# Altium schematic symbol library Semiconductor.SchLib: 40 symbols (part 1 of 2)
Pins are listed as number, name and electrical type; pins without a type are passive.

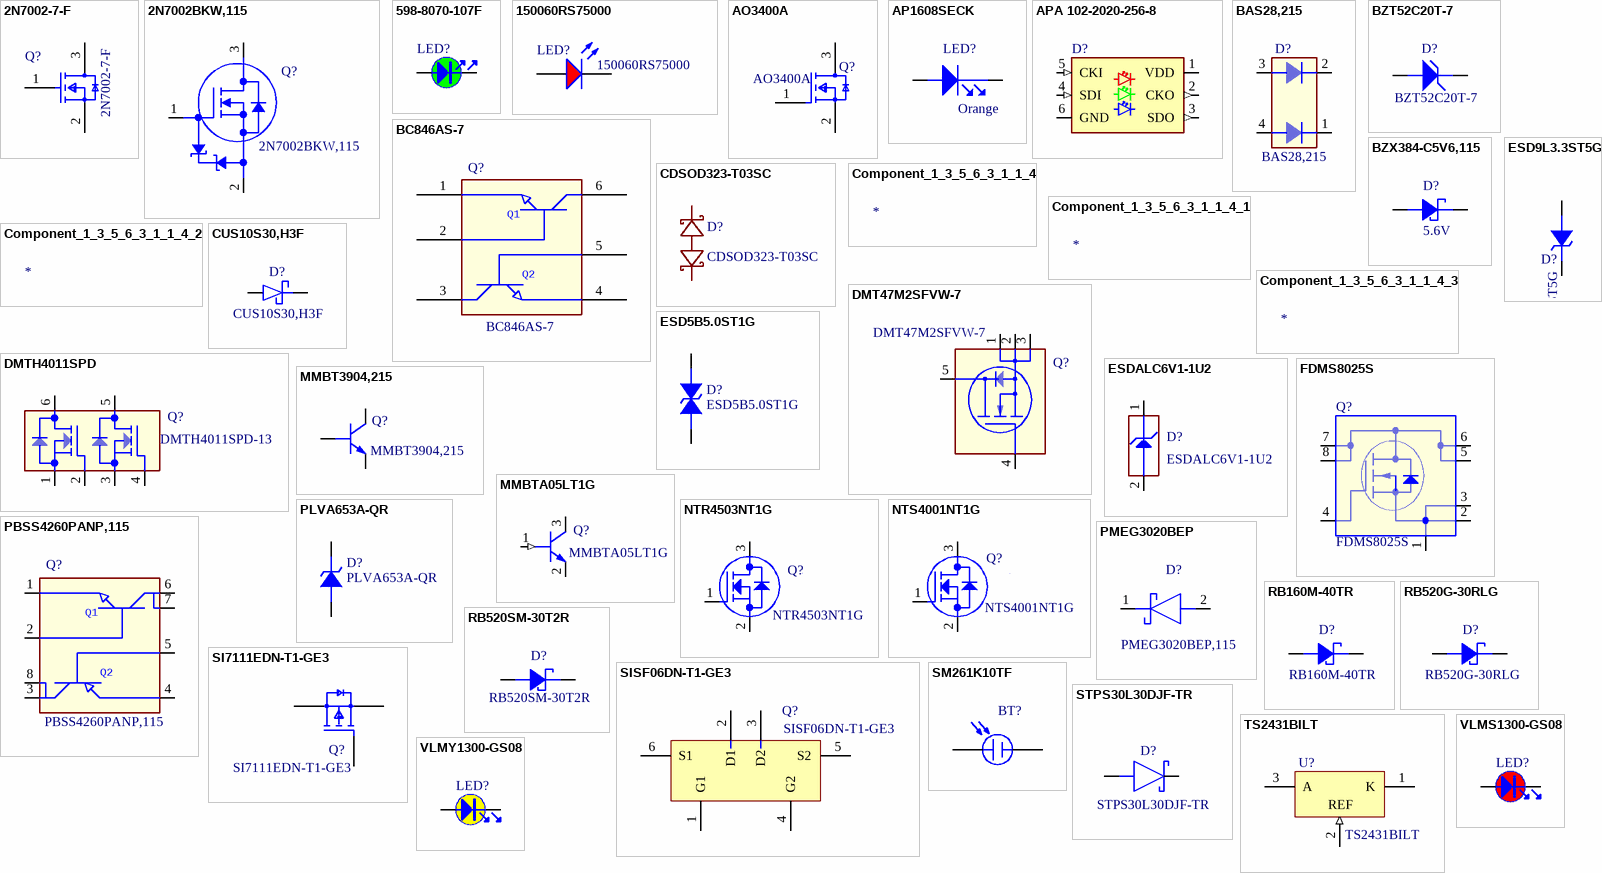
[diagram p0: symbols 2N7002-7-F to VLMY1300-GS08]

## 2N7002-7-F
designator Q?
Power MOSFET, N Channel, 60 V, 115 mA, 7.5 Ohm, SOT-23, 3 Pins, Surface Mount; Manufacturer: Diodes; Library: Hexabitz; Rds On Max: 7.5R; Input Capacitance: 50pF; Max Power Dissipation: 300mW; Continuous Drain Current (ID): 115mA; Drain to Source Breakdown Voltage: 70V; Gate to Source Voltage (Vgs): 20V; Power Dissipation: 540mW; Number of Elements: 1; Drain to Source Voltage (Vdss): 60V; Turn-Off Delay Time: 11ns; Turn-On Delay Time: 7ns; Threshold Voltage: 2.5V; Rise Time: 3ns; Polarity: N-CHANNEL; Fall Time: 5.6ns; Supplier: Digikey; Supplier Part Number: 2N7002-FDIDKR-ND; RoHS: Yes; Category: MOSFETs; Stock: 747677; Pricing: 1=0.16, 10=0.095, 100=0.049, 500=0.0469, 1000=0.03845 (USD); Mounting Technology: Surface Mount; Case/Package: SOT-23; Pins: 3; Weight: 0.000282oz; Min Operating Temperature: -55°C; Max Operating Temperature: 150°C; Packaging: Tape and Reel; Package Quantity: 1; Drain to Source Resistance: 7.5R; Series: -; Number of Channels: 1; Nominal Vgs: 2.5V; Drain-source On Resistance-Max: 7.5R; Voltage Rating (DC): 60V; Current Rating: 115mA; Dual Supply Voltage: 60V; Termination: SMD/SMT; Voltage: 60V; Length: 2.9mm; Width: 1.3mm; Height: 1mm; Radiation Hardening: No; Lead Free: Lead Free; RoHS Compliant: Yes; Reach SVHC Compliant: No; ComponentLink1URL: https://datasheet.ciiva.com/3304/ds11303-3304385.pdf?src-supplier=Avnet; ComponentLink1Description: https://datasheet.ciiva.com/3304/ds11303-3304385.pdf?src-supplier=Avnet; ComponentLink2URL: https://datasheet.ciiva.com/15219/getdatasheetpartid-110059-15219667.pdf?src-supplier=Verical; ComponentLink2Description: https://datasheet.ciiva.com/15219/getdatasheetpartid-110059-15219667.pdf?src-supplier=Verical; ComponentLink3URL: https://datasheet.ciiva.com/1188/ds11303-1188363.pdf?src-supplier=Element14; ComponentLink3Description: https://datasheet.ciiva.com/1188/ds11303-1188363.pdf?src-supplier=Element14; ComponentLink4URL: https://datasheet.ciiva.com/22712/1915452-22712375.pdf?src-supplier=Element14; ComponentLink4Description: https://datasheet.ciiva.com/22712/1915452-22712375.pdf?src-supplier=Element14; ComponentLink5URL: https://datasheet.ciiva.com/49020/70437206-49020102.pdf?src-supplier=Allied+Electronics; ComponentLink5Description: https://datasheet.ciiva.com/49020/70437206-49020102.pdf?src-supplier=Allied+Electronics; Supplier 1: Digikey; Supplier Part Number 1: 2N7002-FDIDKR-ND; Supplier 2: Mouser; Supplier Part Number 2: 621-2N7002-F; Manufacturer Part Number: 2N7002-7-F
footprint FP-SOT23-MFG - duplicate
pins: 1 G, 2 S, 3 D

## 2N7002BKW,115
designator Q?
Transistor Mosfet N-ch 60V 0.31A 3-PIN SOT-323 T/r; Manufacturer: Nexperia; Library: Hexabitz; Drain to Source Resistance: 1R; Supplier: Digikey; Supplier Part Number: 1727-4788-6-ND; RoHS: Yes; Category: MOSFETs; Stock: 40646; Pricing: 1=0.24, 10=0.153, 100=0.0765, 500=0.06448, 1000=0.05028 (USD); Packaging: 10Packaging; RoHS Compliant: Yes; ComponentLink1URL: http://www.farnell.com/datasheets/1322445.pdf?src-supplier=Farnell; ComponentLink1Description: http://www.farnell.com/datasheets/1322445.pdf?src-supplier=Farnell; ComponentLink2URL: https://www.mouser.com/ds/2/302/2N7002BKW-1150600.pdf?src-supplier=Mouser; ComponentLink2Description: https://www.mouser.com/ds/2/302/2N7002BKW-1150600.pdf?src-supplier=Mouser; ComponentLink3URL: https://assets.nexperia.com/documents/data-sheet/2N7002BKW.pdf?src-supplier=Digikey; ComponentLink3Description: https://assets.nexperia.com/documents/data-sheet/2N7002BKW.pdf?src-supplier=Digikey; ComponentLink4URL: http://www.farnell.com/datasheets/1322445.pdf?src-supplier=Newark; ComponentLink4Description: http://www.farnell.com/datasheets/1322445.pdf?src-supplier=Newark; ComponentLink5URL: https://datasheet.octopart.com/2N7002BKW%2C115-Nexperia-datasheet-83579180.pdf?src-supplier=Newark; ComponentLink5Description: https://datasheet.octopart.com/2N7002BKW%2C115-Nexperia-datasheet-83579180.pdf?src-supplier=Newark; ComponentLink6URL: https://datasheet.octopart.com/2N7002BKW%2C115-Nexperia-datasheet-83579180.pdf?src-supplier=TME; ComponentLink6Description: https://datasheet.octopart.com/2N7002BKW%2C115-Nexperia-datasheet-83579180.pdf?src-supplier=TME; Supplier 1: Digikey; Supplier Part Number 1: 1727-4788-6-ND; Manufacturer Part Number: 2N7002BKW,115
footprint SC70_3
pins: 1 GATE, 2 SOURCE, 3 DRAIN

## 598-8070-107F
designator LED?  (value not drawn)
0603 PACKAGE MICRO SMD LED Single Color LED, Green, Water Clear, 1.1mm; Manufacturer: Dialight; Library: Hexabitz; Lens Color: Colorless,Clear; Lens Style: Flat,Rectangular,Diffused,Colorless,Clear,WATER CLEAR; Dominant Wavelength: 568nm; Number of LEDs: 1; Reverse Voltage: 5V; Wavelength: 570nm; Luminous Intensity: 20mcd; Viewing Angle: 140°; Forward Voltage: 2V; Forward Current: 20mA; Power Dissipation: 60mW; Lens Size: 0.8mm; Supplier: Digikey; Supplier Part Number: 350-2035-6-ND; Manufacturer Part Number: 598-8070-107F; RoHS: Yes; Category: LEDs; Pricing: 1=0.23, 10=0.154, 100=0.1073, 500=0.08604, 1000=0.07899, 2000=0.07298 (USD); Mounting Technology: Surface Mount; Case/Package: 0603; Pins: 2; Color: Green; Case Code (Metric): 1608; Case Code (Imperial): 0603; Min Operating Temperature: -30°C; Max Operating Temperature: 100°C; Packaging: Tape and Reel; Package Quantity: 4000; Illumination Color: Green; Test Current: 20mA; Number of Elements: 1; Lens Transparency: Clear; Series: 598; Length: 1.6mm; Width: 0.8mm; Height: 0.7mm; Depth: 0.8mm; Radiation Hardening: No; Reach SVHC Compliant: No; Lead Free: Lead Free; RoHS Compliant: Yes; ComponentLink1URL: https://datasheet.ciiva.com/11774/0900766b80ae2975-11774257.pdf?src-supplier=Rs; ComponentLink1Description: https://datasheet.ciiva.com/11774/0900766b80ae2975-11774257.pdf?src-supplier=Rs; ComponentLink2URL: https://datasheet.ciiva.com/15117/getdatasheetpartid-146438-15117836.pdf?src-supplier=Verical; ComponentLink2Description: https://datasheet.ciiva.com/15117/getdatasheetpartid-146438-15117836.pdf?src-supplier=Verical; ComponentLink3URL: https://datasheet.ciiva.com/4688/598-selectorguide-18902-4688880.pdf?src-supplier=Mouser; ComponentLink3Description: https://datasheet.ciiva.com/4688/598-selectorguide-18902-4688880.pdf?src-supplier=Mouser; ComponentLink4URL: https://datasheet.ciiva.com/1243/1484480-1243893.pdf?src-supplier=Element14; ComponentLink4Description: https://datasheet.ciiva.com/1243/1484480-1243893.pdf?src-supplier=Element14; ComponentLink5URL: https://datasheet.ciiva.com/1243/1484480-1243894.pdf?src-supplier=Element14; ComponentLink5Description: https://datasheet.ciiva.com/1243/1484480-1243894.pdf?src-supplier=Element14; ComponentLink6URL: https://datasheet.ciiva.com/22749/1484480-22749228.pdf?src-supplier=Element14; ComponentLink6Description: https://datasheet.ciiva.com/22749/1484480-22749228.pdf?src-supplier=Element14; ComponentLink7URL: https://datasheet.ciiva.com/2110/598-series-0603-pkg-2110167.pdf?src-supplier=Digikey; ComponentLink7Description: https://datasheet.ciiva.com/2110/598-series-0603-pkg-2110167.pdf?src-supplier=Digikey; ComponentLink8URL: https://datasheet.ciiva.com/15965/mdei5980603-15965419.pdf?src-supplier=Onlinecomponents.com; ComponentLink8Description: https://datasheet.ciiva.com/15965/mdei5980603-15965419.pdf?src-supplier=Onlinecomponents.com; ComponentLink9URL: https://datasheet.ciiva.com/16400/smt-selector-guide-16400463.pdf?src-supplier=Future+Electronics; ComponentLink9Description: https://datasheet.ciiva.com/16400/smt-selector-guide-16400463.pdf?src-supplier=Future+Electronics; ComponentLink10URL: https://datasheet.ciiva.com/30188/mdei5980603-30188139.pdf?src-supplier=Onlinecomponents.com; ComponentLink10Description: https://datasheet.ciiva.com/30188/mdei5980603-30188139.pdf?src-supplier=Onlinecomponents.com; ComponentLink11URL: https://datasheet.ciiva.com/14605/70081990-14605530.pdf?src-supplier=Allied+Electronics; ComponentLink11Description: https://datasheet.ciiva.com/14605/70081990-14605530.pdf?src-supplier=Allied+Electronics; ComponentLink12URL: https://datasheet.ciiva.com/2110/598-series-0603-pkg-2110165.pdf?src-supplier=Digikey; ComponentLink12Description: https://datasheet.ciiva.com/2110/598-series-0603-pkg-2110165.pdf?src-supplier=Digikey; ComponentLink13URL: https://datasheet.ciiva.com/2110/598-series-0603-pkg-2110166.pdf?src-supplier=Digikey; ComponentLink13Description: https://datasheet.ciiva.com/2110/598-series-0603-pkg-2110166.pdf?src-supplier=Digikey; Supplier 1: Digikey; Supplier Part Number 1: 350-2035-6-ND
footprint DIAL-0603-2_V (LED, 2-Leads, Body 1.6x0.8mm)
pins: 1, 2

## 150060RS75000
designator LED?
LED Low-Power Uni-Color Red 630nm 2V 2-Pin Chip 0603(1608Metric) T/R; Manufacturer: Wurth Electronics; Library: Hexabitz; Lens Color: Colorless; Viewing Angle: 140°; Lens Style: Clear,Flat,Rectangular; Luminous Intensity: 250mcd; Forward Current: 30mA; Wavelength: 625nm; Test Current: 20mA; Lens Transparency: Clear; Max Reverse Voltage (DC): 5V; Power Dissipation: 72mW; Lens Size: 0.7mm; Supplier: Digikey; Supplier Part Number: 732-4978-6-ND; RoHS: Yes; Category: LEDs; Stock: 174592; Pricing: 1=0.15, 50=0.142, 100=0.1239 (USD); Mounting Technology: Surface Mount; Case/Package: 0603; Color: Red; Case Code (Metric): 1608; Case Code (Imperial): 0603; Min Operating Temperature: -40°C; Max Operating Temperature: 85°C; Package Quantity: 1; Packaging: Cut Tape; Forward Voltage: 2V; Dominant Wavelength: 625nm; Series: WL-SMCW; Reverse Voltage: 5V; Length: 1.6mm; Width: 0.8mm; Height: 0.8mm; RoHS Compliant: Yes; Reach SVHC Compliant: Unknown; ComponentLink1URL: https://datasheet.ciiva.com/29563/150060rs75000-29563040.pdf?src-supplier=Digikey; ComponentLink1Description: https://datasheet.ciiva.com/29563/150060rs75000-29563040.pdf?src-supplier=Digikey; ComponentLink2URL: https://datasheet.ciiva.com/29279/759428-da-01-en-chipled-0603-w-kl-rot-150060rs75000-29279196.pdf?src-supplier=Conrad; ComponentLink2Description: https://datasheet.ciiva.com/29279/759428-da-01-en-chipled-0603-w-kl-rot-150060rs75000-29279196.pdf?src-supplier=Conrad; Supplier 1: Digikey; Supplier Part Number 1: 732-4978-6-ND; Manufacturer Part Number: 150060RS75000
footprint WL-SMCW_0603_150060xx75000 (SMD Mono-color Chip LED, body 1.60 x 0.80 mm)
pins: 1 K, 2 A

## AO3400A
designator Q?
Trans MOSFET N-CH 30V 5.7A 3-Pin SOT-23; Manufacturer: Alpha & Omega Semiconductor; Library: Hexabitz; Drain to Source Resistance: 18mR; Number of Channels: 1NUMBER; Threshold Voltage: 650mV; Turn-Off Delay Time: 25ns; Turn-On Delay Time: 3ns; Supplier: Digikey; Supplier Part Number: 785-1000-6-ND; Manufacturer Part Number: AO3400A; RoHS: Yes; Category: MOSFETs; Stock: 327547; Pricing: 1=0.46, 10=0.282, 100=0.1787, 500=0.1337, 1000=0.11915 (USD); Drain to Source Breakdown Voltage: 30V; Height: 1.25mm; Lead Free: 5697LeadFree; ComponentLink1URL: https://datasheet.ciiva.com/26906/getdatasheetpartid-64438-26906526.pdf?src-supplier=Verical; ComponentLink1Description: https://datasheet.ciiva.com/26906/getdatasheetpartid-64438-26906526.pdf?src-supplier=Verical; ComponentLink2URL: https://datasheet.ciiva.com/940/ao3400a-940739.pdf?src-supplier=Digikey; ComponentLink2Description: https://datasheet.ciiva.com/940/ao3400a-940739.pdf?src-supplier=Digikey; ComponentLink3URL: https://datasheet.ciiva.com/940/ao3400a-940740.pdf?src-supplier=Digikey; ComponentLink3Description: https://datasheet.ciiva.com/940/ao3400a-940740.pdf?src-supplier=Digikey; ComponentLink4URL: https://datasheet.ciiva.com/940/ao3400a-940741.pdf?src-supplier=Digikey; ComponentLink4Description: https://datasheet.ciiva.com/940/ao3400a-940741.pdf?src-supplier=Digikey; Supplier 1: Digikey; Supplier Part Number 1: 785-1000-6-ND
footprint FP-SOT23-MFG
pins: 1 G, 2 S, 3 D

## AP1608SECK
designator LED?  Color: Orange  (hidden comment: AP1608SECK)
LED Uni-Color Orange 610nm 2-Pin Chip LED T/R; Manufacturer: Kingbright; Library: Hexabitz; Supplier: Mouser; Supplier Part Number: 604-AP1608SECK; Manufacturer Part Number: AP1608SECK; RoHS: Yes; Category: LEDs; Stock: 4530; Pricing: 1=0.32, 10=0.205, 50=0.205, 100=0.205, 1000=0.205, 10000=0.057 (USD); ComponentLink1URL: https://datasheet.ciiva.com/4690/ap1608seck-29404-4690161.pdf?src-supplier=Mouser; ComponentLink1Description: https://datasheet.ciiva.com/4690/ap1608seck-29404-4690161.pdf?src-supplier=Mouser; Supplier 1: Mouser; Supplier Part Number 1: 604-AP1608SECK
footprint LED_0603
pins: A ANODE, C CATHODE

## APA 102-2020-256-8
designator D?  (value not drawn)
APA102-2020 Micro Led Lamp Beads Smd 2020 Led Chip; Manufacturer: iPixel LED Light Co; Library: Hexabitz; Color: Blue,Green,Red; Interface: Serial; Number of LEDs: 10; Max Supply Voltage: 5.5V; Supplier: Shenzhen Kaixinliang Technical Co; Manufacturer Part Number: APA 102-2020-256-8; RoHS: No; Category: LEDs; Stock: 280; Pricing: 1=5.95 (USD); Mounting Technology: Surface Mount; Min Operating Temperature: -40°C; Max Operating Temperature: 70°C; Series: -; Length: 2mm; Width: 2mm; ComponentLink1URL: https://cdn-shop.adafruit.com/product-files/3341/APA102-2020-8A+LED+Datasheet.pdf; ComponentLink1Description: DataSheet; ComponentLink2Description: Supplier Link; ComponentLink2URL: https://www.alibaba.com/product-detail/APA102-2020-micro-led-lamp-beads_62018751188.html?spm=a2700.wholesale.you_may_like.3.32905045bFHf87
footprint APA1022020; pin to pad 1>2+7 2>1 3>4 4>6 5>3 6>5+8
pins: 1 VDD (power), 2 CKO (out), 3 SDO (out), 4 SDI (in), 5 CKI (in), 6 GND (power)

## BAS28,215
designator D?
HIGH-SPEED DOUBLE DIODE Rectifier Diode, 2 Element, 0.215A, 85V V(RRM), Silicon; Manufacturer: Nexperia; Library: Hexabitz; Forward Voltage: 1.25V; Forward Current: 215mA; Max Forward Surge Current (Ifsm): 500mA; Max Reverse Current: 1uA; Reverse Voltage: 75V; Supplier: Digikey; Supplier Part Number: 1727-2890-6-ND; RoHS: Yes; Category: Rectifier Diodes; Stock: 3378; Pricing: 1=0.21, 10=0.143, 100=0.1054, 500=0.0776, 1000=0.06858 (USD); Pins: 4NUMBER; Max Operating Temperature: 150°C; Max Repetitive Reverse Voltage (Vrrm): 85V; Height: 1.1mm; ComponentLink1URL: http://www.farnell.com/datasheets/696985.pdf?src-supplier=Farnell; ComponentLink1Description: http://www.farnell.com/datasheets/696985.pdf?src-supplier=Farnell; ComponentLink2URL: https://datasheet.octopart.com/BAS28%2C215-Nexperia-datasheet-12521712.pdf?src-supplier=Element14; ComponentLink2Description: https://datasheet.octopart.com/BAS28%2C215-Nexperia-datasheet-12521712.pdf?src-supplier=Element14; ComponentLink3URL: https://datasheet.octopart.com/BAS28%2C215-Nexperia-datasheet-8534839.pdf?src-supplier=Future+Electronics; ComponentLink3Description: https://datasheet.octopart.com/BAS28%2C215-Nexperia-datasheet-8534839.pdf?src-supplier=Future+Electronics; ComponentLink4URL: https://datasheet.octopart.com/BAS28%2C215-Nexperia-datasheet-87580846.pdf?src-supplier=Farnell; ComponentLink4Description: https://datasheet.octopart.com/BAS28%2C215-Nexperia-datasheet-87580846.pdf?src-supplier=Farnell; Supplier 1: Digikey; Supplier Part Number 1: 1727-2890-6-ND; Manufacturer Part Number: BAS28,215
footprint SOT143B
pins: 1 K1, 2 K2, 3 A2, 4 A1

## BC846AS-7
designator Q?
Small Signal Bipolar Transistor, 0.1A I(C), 65V V(BR)CEO, 2-Element, NPN, Silicon; Manufacturer: Diodes; Library: Hexabitz; Supplier: Digikey; Supplier Part Number: BC846ASDIDKR-ND; RoHS: Yes; Category: BJTs; Stock: 172622; Pricing: 1=0.38, 10=0.236, 100=0.1483, 500=0.11024, 1000=0.09795 (USD); Reach SVHC Compliant: 4186SVHC; ComponentLink1URL: https://datasheet.ciiva.com/15139/getdatasheetpartid-223628-15139772.pdf?src-supplier=Verical; ComponentLink1Description: https://datasheet.ciiva.com/15139/getdatasheetpartid-223628-15139772.pdf?src-supplier=Verical; ComponentLink2URL: https://datasheet.ciiva.com/968/ds30833-968274.pdf?src-supplier=Digikey; ComponentLink2Description: https://datasheet.ciiva.com/968/ds30833-968274.pdf?src-supplier=Digikey; ComponentLink3URL: https://datasheet.ciiva.com/968/ds30833-968275.pdf?src-supplier=Digikey; ComponentLink3Description: https://datasheet.ciiva.com/968/ds30833-968275.pdf?src-supplier=Digikey; ComponentLink4URL: https://datasheet.ciiva.com/968/ds30833-968276.pdf?src-supplier=Digikey; ComponentLink4Description: https://datasheet.ciiva.com/968/ds30833-968276.pdf?src-supplier=Digikey; ComponentLink5URL: https://datasheet.ciiva.com/11207/ds30833-11207883.pdf?src-supplier=Avnet; ComponentLink5Description: https://datasheet.ciiva.com/11207/ds30833-11207883.pdf?src-supplier=Avnet; Supplier 1: Digikey; Supplier Part Number 1: BC846ASDIDKR-ND; Manufacturer Part Number: BC846AS-7
footprint SOT-363_0P65_SMT
pins: 1 E2, 2 B2, 3 C1, 4 E1, 5 B1, 6 C2
text: Q1; Q2

## BZT52C20T-7
designator D?
Diode Zener Single 20V 6% 300mW Automotive 2-Pin SOD-523 T/R; Manufacturer: Diodes; Library: Hexabitz; Supplier: Digikey; Supplier Part Number: BZT52C20T-7DIDKR-ND; RoHS: Yes; Category: Zener Diodes; Stock: 2625; Pricing: 1=0.12, 10=0.08, 100=0.038, 500=0.0375, 1000=0.037 (USD); ComponentLink1URL: https://datasheet.ciiva.com/891/ds30502-891950.pdf?src-supplier=Digikey; ComponentLink1Description: https://datasheet.ciiva.com/891/ds30502-891950.pdf?src-supplier=Digikey; ComponentLink2URL: https://datasheet.ciiva.com/891/ds30502-891951.pdf?src-supplier=Digikey; ComponentLink2Description: https://datasheet.ciiva.com/891/ds30502-891951.pdf?src-supplier=Digikey; Supplier 1: Digikey; Supplier Part Number 1: BZT52C20T-7DIDKR-ND; Manufacturer Part Number: BZT52C20T-7
footprint SOD523
pins: A ANODE, C CATHODE

## BZX384-C5V6,115
designator D?  Voltage: 5.6V  (hidden comment: BZX384-C5V6,115)
Zener Diode Single 5.6V 5% 40Ohm 300mW Automotive 2-Pin SOD-323 T/R; Manufacturer: Nexperia; Library: Hexabitz; Polarity: 5054Direction; Supplier: Digikey; Supplier Part Number: 1727-4993-6-ND; Manufacturer Part Number: BZX384-C5V6,115; RoHS: Yes; Category: Zener Diodes; Stock: 45172; Pricing: 1=0.12, 10=0.077, 100=0.036, 500=0.035, 1000=0.03 (USD); Pins: 2NUMBER; RoHS Compliant: Yes; ComponentLink1URL: https://datasheet.octopart.com/BZX384-C5V6%2C115-Nexperia-datasheet-155662751.pdf?src-supplier=Future+Electronics; ComponentLink1Description: https://datasheet.octopart.com/BZX384-C5V6%2C115-Nexperia-datasheet-155662751.pdf?src-supplier=Future+Electronics; ComponentLink2URL: https://assets.nexperia.com/documents/data-sheet/BZX384_SERIES.pdf?src-supplier=Digikey; ComponentLink2Description: https://assets.nexperia.com/documents/data-sheet/BZX384_SERIES.pdf?src-supplier=Digikey; ComponentLink3URL: https://datasheet.octopart.com/BZX384-C5V6%2C115-Nexperia-datasheet-8360268.pdf?src-supplier=Farnell; ComponentLink3Description: https://datasheet.octopart.com/BZX384-C5V6%2C115-Nexperia-datasheet-8360268.pdf?src-supplier=Farnell; ComponentLink4URL: https://datasheet.octopart.com/BZX384-C5V6%2C115-Nexperia-datasheet-68321567.pdf?src-supplier=Element14; ComponentLink4Description: https://datasheet.octopart.com/BZX384-C5V6%2C115-Nexperia-datasheet-68321567.pdf?src-supplier=Element14; ComponentLink5URL: https://datasheet.octopart.com/BZX384-C5V6%2C115-NXP-Semiconductors-datasheet-11524017.pdf?src-supplier=Newark; ComponentLink5Description: https://datasheet.octopart.com/BZX384-C5V6%2C115-NXP-Semiconductors-datasheet-11524017.pdf?src-supplier=Newark; ComponentLink6URL: https://datasheet.octopart.com/BZX384-C5V6%2C115-Nexperia-datasheet-105678879.pdf?src-supplier=TME; ComponentLink6Description: https://datasheet.octopart.com/BZX384-C5V6%2C115-Nexperia-datasheet-105678879.pdf?src-supplier=TME; Supplier 1: Digikey; Supplier Part Number 1: 1727-4993-6-ND
footprint SOD2512X110N
pins: 1, 2

## CDSOD323-T03SC
designator D?
A 3V, 350W, bi-directional, standard capacitance, SOD323 pkg TVS Diode | Bourns CDSOD323-T03SC; Library: Hexabitz; Breakdown Voltage: 4V; Value: 200pF; Clamping Voltage: 10.9V; Direction: Bidirectional; Element Configuration: Single; Leakage Current: 125µA; Max Power Dissipation: 400W; Max Surge Current: 43A; Number of Bidirectional Channels: 1; Operating Supply Voltage: 3.3V; Power Line Protection: No; Supplier: DigiKey; Supplier Part Number: CDSOD323-T03SCDKR-ND; Manufacturer: Bourns; Manufacturer Part Number: CDSOD323-T03SC; RoHS: Compliant; Category: TVS Diodes; Stock: 937; Pricing: 1=0.69, 10=0.604, 100=0.418, 500=0.343, 1000=0.297 (USD); China RoHS: Compliant; Composition: Zener; Contact Plating: Tin; Depth: 1.45mm; Length: 1.9mm; Lifecycle Status: Production; Max Operating Temperature: 150°C; Min Breakdown Voltage: 4V; Min Operating Temperature: -55°C; Mounting Technology: Surface Mount; Number of Channels: 1; Number of Elements: 1; Pins: 2; Number of Terminals: 2; Peak Pulse Current: 43A; Peak Pulse Power: 400W; Peak Reverse Current: 125µA; Polarity: Bidirectional; Radiation Hardening: No; REACH SVHC: Yes; Reverse Standoff Voltage: 3.3V; Termination: SMD/SMT; Working Voltage: 3.3V; ComponentLink1URL: https://datasheet.octopart.com:443/CDSOD323-T03SC-Bourns-datasheet-179966067.pdf?src-supplier=IHS; ComponentLink1Description: https://datasheet.octopart.com:443/CDSOD323-T03SC-Bourns-datasheet-179966067.pdf?src-supplier=IHS; ComponentLink2URL: https://datasheet.octopart.com:443/CDSOD323-T03SC-Bourns-datasheet-134530207.pdf?src-supplier=Electro+Sonic; ComponentLink2Description: https://datasheet.octopart.com:443/CDSOD323-T03SC-Bourns-datasheet-134530207.pdf?src-supplier=Electro+Sonic; ComponentLink3URL: https://datasheet.octopart.com:443/CDSOD323-T03SC-Bourns-datasheet-11734656.pdf?src-supplier=Burklin+Elektronik; ComponentLink3Description: https://datasheet.octopart.com:443/CDSOD323-T03SC-Bourns-datasheet-11734656.pdf?src-supplier=Burklin+Elektronik; ComponentLink4URL: https://datasheet.octopart.com:443/CDSOD323-T03SC-Bourns-datasheet-37162147.pdf?src-supplier=Farnell; ComponentLink4Description: https://datasheet.octopart.com:443/CDSOD323-T03SC-Bourns-datasheet-37162147.pdf?src-supplier=Farnell; ComponentLink5URL: https://datasheet.octopart.com:443/CDSOD323-T03SC-Bourns-datasheet-159777421.pdf?src-supplier=RS+(Formerly+Allied+Electronics); ComponentLink5Description: https://datasheet.octopart.com:443/CDSOD323-T03SC-Bourns-datasheet-159777421.pdf?src-supplier=RS+(Formerly+Allied+Electronics); ComponentLink6URL: http://sigma.octopart.com:80/conflict_mineral_statement/Bourns-company-36.pdf?src-supplier=Compliance+Statements; ComponentLink6Description: http://sigma.octopart.com:80/conflict_mineral_statement/Bourns-company-36.pdf?src-supplier=Compliance+Statements; Supplier 1: DigiKey; Supplier Part Number 1: CDSOD323-T03SCDKR-ND
footprint SOD2513X114N
pins: 1 A, 2 C

## Component_1_3_5_6_3_1_1_4
designator *, comment Component_1_3_5_6_3_1  (value not drawn)
Library: Hexabitz

## Component_1_3_5_6_3_1_1_4_1
designator *, comment Component_1_3_5_6_3_1  (value not drawn)
Library: Hexabitz

## Component_1_3_5_6_3_1_1_4_2
designator *, comment Component_1_3_5_6_3_1  (value not drawn)
Library: Hexabitz

## Component_1_3_5_6_3_1_1_4_3
designator *, comment Component_1_3_5_6_3_1  (value not drawn)
Library: Hexabitz

## CUS10S30,H3F
designator D?
Rectifier Diode, Schottky, 1 Phase, 1 Element, 1A, 30V V(RRM), Silicon; Manufacturer: Toshiba; Max Reverse Current: 500uA; Peak Non-Repetitive Surge Current: 5A; Value: 135pF; Reverse Voltage: 20V; Library: Hexabitz; Supplier: Digikey; Supplier Part Number: CUS10S30H3FDKR-ND; RoHS: Yes; Category: Schottky Diodes; Stock: 39869; Pricing: 1=0.3, 10=0.134, 100=0.1027, 500=0.08336, 1000=0.07807 (USD); Mounting Technology: Surface Mount; Case/Package: SOD; Pins: 2; Contact Plating: Tin,Silver; Min Operating Temperature: -55°C; Max Operating Temperature: 125°C; Packaging: Cut Tape; Average Rectified Current: 1A; Max Reverse Voltage (DC): 30V; Series: -; Forward Current: 1A; Max Forward Surge Current (Ifsm): 5A; Max Repetitive Reverse Voltage (Vrrm): 30V; Height: 1.15mm; RoHS Compliant: Yes; ComponentLink1URL: http://toshiba.semicon-storage.com/info/lookup.jsp?pid=CUS10S30&amp;lang=en&src-supplier=Mouser; ComponentLink1Description: http://toshiba.semicon-storage.com/info/lookup.jsp?pid=CUS10S30&amp;lang=en&src-supplier=Mouser; ComponentLink2URL: http://toshiba.semicon-storage.com/info/docget.jsp?did=14077&prodName=CUS10S30&src-supplier=Avnet; ComponentLink2Description: http://toshiba.semicon-storage.com/info/docget.jsp?did=14077&prodName=CUS10S30&src-supplier=Avnet; ComponentLink3URL: https://toshiba.semicon-storage.com/info/docget.jsp?did=14077&prodName=CUS10S30&src-supplier=Digikey; ComponentLink3Description: https://toshiba.semicon-storage.com/info/docget.jsp?did=14077&prodName=CUS10S30&src-supplier=Digikey; Supplier 1: Digikey; Supplier Part Number 1: CUS10S30H3FDKR-ND; Manufacturer Part Number: CUS10S30,H3F
footprint 1SS357TPH3F
pins: 1 K, 2 A

## DMT47M2SFVW-7
designator Q?
Transistor MOSFET N-CH 40V 49.1A 8-Pin PowerDI 3333 T/R; Manufacturer: Diodes; Library: Hexabitz; Supplier: Digikey; Supplier Part Number: 31-DMT47M2SFVW-7DKR-ND; RoHS: No; Stock: 1386; Pricing: 1=0.94, 10=0.617, 100=0.4121, 500=0.3271, 1000=0.29595 (USD); ComponentLink1Description: Datasheet; ComponentLink1URL: https://www.diodes.com/datasheet/download/DMT47M2SFVW.pdf; Supplier 1: Digikey; Supplier Part Number 1: 31-DMT47M2SFVW-7CT-ND; Supplier 2: Mouser; Supplier Part Number 2: 621-DMT47M2SFVW-7; Manufacturer Part Number: DMT47M2SFVW-7
footprint POWERDI3333-8P_3P15SQ
pins: 1 S1, 2 S2, 3 S3, 4 G, 5 D

## DMTH4011SPD
designator Q?  Manufacturer Part Number: DMTH4011SPD-13  (hidden comment: DMTH4011SPD)
Enhancement Mode MOSFET Dual N-Channel 40V 11.1A Automotive 8-Pin PowerDI T/R; Manufacturer: Diodes; Library: Hexabitz; FET Type: 2 N-Channel; Continuous Drain Current (ID): 42A; Rds On Max: 15mR; Input Capacitance: 805pF; Max Power Dissipation: 2.6W; Supplier: Digikey; Supplier Part Number: DMTH4011SPD-13DIDKR-ND; RoHS: Yes; Category: MOSFETs; Stock: 1454; Pricing: 1=1.21, 10=0.761, 100=0.5011, 500=0.38932, 1000=0.35332 (USD); Mounting Technology: Surface Mount; Pins: 8; Min Operating Temperature: -55°C; Max Operating Temperature: 175°C; Packaging: Cut Tape; Drain to Source Voltage (Vdss): 40V; Series: Automotive, AEC-Q101; RoHS Compliant: Yes; ComponentLink1URL: https://www.diodes.com/assets/Datasheets/DMTH4011SPD.pdf?src-supplier=Digikey; ComponentLink1Description: https://www.diodes.com/assets/Datasheets/DMTH4011SPD.pdf?src-supplier=Digikey; Supplier 1: Digikey; Supplier Part Number 1: DMTH4011SPD-13DIDKR-ND
footprint PowerDI5060-8 (Type C)
pins: 1 SOURCE1, 2 GATE1, 3 SOURCE2, 4 GATE2, 5 DRAIN2, 6 DRAIN1

## ESD5B5.0ST1G
designator D?
ESD5B5.0S Series 5.8 V 50 W 32 pF SMT ESD Protection Diode - SOD-523; Manufacturer: ON Semiconductor; Library: Hexabitz; ComponentLink1URL: https://datasheet.ciiva.com/339/esd5b5-0st1g-339772.pdf?src-supplier=Avnet; ComponentLink1Description: https://datasheet.ciiva.com/339/esd5b5-0st1g-339772.pdf?src-supplier=Avnet; ComponentLink2URL: https://datasheet.ciiva.com/339/esd5b5-0st1g-339772.pdf?src-supplier=Digikey; ComponentLink2Description: https://datasheet.ciiva.com/339/esd5b5-0st1g-339772.pdf?src-supplier=Digikey; ComponentLink3URL: https://datasheet.ciiva.com/22637/716649-22637178.pdf?src-supplier=Element14; ComponentLink3Description: https://datasheet.ciiva.com/22637/716649-22637178.pdf?src-supplier=Element14; ComponentLink4URL: https://datasheet.ciiva.com/4510/esd5b5-0st1g-241623-4510548.pdf?src-supplier=Mouser; ComponentLink4Description: https://datasheet.ciiva.com/4510/esd5b5-0st1g-241623-4510548.pdf?src-supplier=Mouser; ComponentLink5URL: https://datasheet.ciiva.com/339/esd5b5-0st1-d-339773.pdf?src-supplier=Digikey; ComponentLink5Description: https://datasheet.ciiva.com/339/esd5b5-0st1-d-339773.pdf?src-supplier=Digikey; ComponentLink6URL: https://datasheet.ciiva.com/339/esd5b5-0st1-d-339774.pdf?src-supplier=Digikey; ComponentLink6Description: https://datasheet.ciiva.com/339/esd5b5-0st1-d-339774.pdf?src-supplier=Digikey; Supplier: Digikey; Supplier Part Number: ESD5B5.0ST1GOSDKR-ND; RoHS: Yes; Category: ESD and Circuit Protection ICs; Stock: 33606; Pricing: 1=0.16, 10=0.098, 100=0.052, 500=0.051, 1000=0.049 (USD); Lead Free: 5697LeadFree; Halogen Free: 5694HalogenFree; Supplier 1: Digikey; Supplier Part Number 1: ESD5B5.0ST1GOSDKR-ND; Manufacturer Part Number: ESD5B5.0ST1G
footprint ONSC-SOD-523-2-502-01_C_V (SOD, 2-Leads, Body 1.2x0.8mm)
pins: 1, 2

## ESD9L3.3ST5G
designator D?
ESD9L3 Series 3.3 Vrwm Low Capacitance ESD Protection Uni-Directional - SOD-923; Manufacturer: ON Semiconductor; Library: Hexabitz; Supplier: Digikey; Supplier Part Number: ESD9L3.3ST5GOSDKR-ND; RoHS: Yes; Category: ESD and Circuit Protection ICs; Stock: 97279; Pricing: 1=0.36, 10=0.235, 100=0.105, 500=0.099, 1000=0.091, 2000=0.09 (USD); Lead Free: 5697LeadFree; Halogen Free: 5694HalogenFree; ComponentLink1URL: https://datasheet.ciiva.com/25630/0900766b811a643f-25630729.pdf?src-supplier=Rs; ComponentLink1Description: https://datasheet.ciiva.com/25630/0900766b811a643f-25630729.pdf?src-supplier=Rs; ComponentLink2URL: https://datasheet.ciiva.com/15143/getdatasheetpartid-148186-15143779.pdf?src-supplier=Verical; ComponentLink2Description: https://datasheet.ciiva.com/15143/getdatasheetpartid-148186-15143779.pdf?src-supplier=Verical; ComponentLink3URL: https://datasheet.ciiva.com/17043/70275398-17043787.pdf?src-supplier=Allied+Electronics; ComponentLink3Description: https://datasheet.ciiva.com/17043/70275398-17043787.pdf?src-supplier=Allied+Electronics; ComponentLink4URL: https://datasheet.ciiva.com/11194/esd9l-d-11194007.pdf?src-supplier=Avnet; ComponentLink4Description: https://datasheet.ciiva.com/11194/esd9l-d-11194007.pdf?src-supplier=Avnet; ComponentLink5URL: https://datasheet.ciiva.com/354/esd9l-d-354221.pdf?src-supplier=Digikey; ComponentLink5Description: https://datasheet.ciiva.com/354/esd9l-d-354221.pdf?src-supplier=Digikey; ComponentLink6URL: https://datasheet.ciiva.com/354/esd9l-d-354222.pdf?src-supplier=Digikey; ComponentLink6Description: https://datasheet.ciiva.com/354/esd9l-d-354222.pdf?src-supplier=Digikey; ComponentLink7URL: https://datasheet.ciiva.com/354/esd9l-d-354223.pdf?src-supplier=Digikey; ComponentLink7Description: https://datasheet.ciiva.com/354/esd9l-d-354223.pdf?src-supplier=Digikey; ComponentLink8URL: https://datasheet.ciiva.com/4507/esd9l-d-4507913.pdf?src-supplier=Mouser; ComponentLink8Description: https://datasheet.ciiva.com/4507/esd9l-d-4507913.pdf?src-supplier=Mouser; ComponentLink9URL: https://datasheet.ciiva.com/16437/esd9c3-3s-d-16437834.pdf?src-supplier=Future+Electronics; ComponentLink9Description: https://datasheet.ciiva.com/16437/esd9c3-3s-d-16437834.pdf?src-supplier=Future+Electronics; Supplier 1: Digikey; Supplier Part Number 1: ESD9L3.3ST5GOSDKR-ND; Manufacturer Part Number: ESD9L3.3ST5G
footprint ONSC-SOD-923-2-514AB-01_V (SOD, 2-Leads, Body 0.8x0.6mm)
pins: 1 CATHODE, 2 ANODE

## ESDALC6V1-1U2
designator D?
ESDALC Series 1 Line 6.1 V Uni-Directional ESD Protection Transil- ST0201; Manufacturer: STMicroelectronics; Library: Hexabitz; Direction: Unidirectional; Value: 12pF; Number of Channels: 1; Reverse Breakdown Voltage: 6.1V; Reverse Standoff Voltage: 3V; Peak Pulse Power: 20W; Power Line Protection: No; Clamping Voltage: 12.2V; ESD Protection: Yes; Test Current: 1mA; Max Reverse Leakage Current: 100nA; Max Breakdown Voltage: 8V; Peak Pulse Current: 2A; Diode Type: ZENER; Supplier: Digikey; Supplier Part Number: 497-8752-6-ND; RoHS: Yes; Category: TVS Diodes; Stock: 72008; Pricing: 1=0.25, 10=0.175, 100=0.105 (USD); Mounting Technology: Surface Mount; Case/Package: 0201; Pins: 2; Case Code (Metric): 0603; Case Code (Imperial): 0201; Min Operating Temperature: -40°C; Max Operating Temperature: 125°C; Packaging: Tape and Reel; Number of Elements: 1; Number of Unidirectional Channels: 1; Min Breakdown Voltage: 6.1V; Breakdown Voltage: 6.1V; Polarity: Unidirectional; Termination: SMD/SMT; Leakage Current: 100nA; Max Power Dissipation: 20W; Power Dissipation: 20W; Series: ESDA, TRANSIL™; Length: 0.6mm; Width: 0.35mm; Height: 0.33mm; Depth: 0.3mm; Radiation Hardening: No; Reach SVHC Compliant: No; Lead Free: Lead Free; RoHS Compliant: Yes; ComponentLink1URL: https://datasheet.ciiva.com/1276/1684876-1276912.pdf?src-supplier=Element14; ComponentLink1Description: https://datasheet.ciiva.com/1276/1684876-1276912.pdf?src-supplier=Element14; ComponentLink2URL: https://datasheet.ciiva.com/4507/cd00212838-88488-4507763.pdf?src-supplier=Mouser; ComponentLink2Description: https://datasheet.ciiva.com/4507/cd00212838-88488-4507763.pdf?src-supplier=Mouser; ComponentLink3URL: https://datasheet.ciiva.com/16205/cd00212838-16205762.pdf?src-supplier=Future+Electronics; ComponentLink3Description: https://datasheet.ciiva.com/16205/cd00212838-16205762.pdf?src-supplier=Future+Electronics; ComponentLink4URL: https://datasheet.ciiva.com/15143/getdatasheetpartid-185245-15143908.pdf?src-supplier=Verical; ComponentLink4Description: https://datasheet.ciiva.com/15143/getdatasheetpartid-185245-15143908.pdf?src-supplier=Verical; ComponentLink5URL: https://datasheet.ciiva.com/22695/1684876-22695674.pdf?src-supplier=Element14; ComponentLink5Description: https://datasheet.ciiva.com/22695/1684876-22695674.pdf?src-supplier=Element14; ComponentLink6URL: https://datasheet.ciiva.com/337/cd00212838-337652.pdf?src-supplier=Digikey; ComponentLink6Description: https://datasheet.ciiva.com/337/cd00212838-337652.pdf?src-supplier=Digikey; ComponentLink7URL: https://datasheet.ciiva.com/337/cd00212838-337651.pdf?src-supplier=Digikey; ComponentLink7Description: https://datasheet.ciiva.com/337/cd00212838-337651.pdf?src-supplier=Digikey; ComponentLink8URL: https://datasheet.ciiva.com/337/cd00212838-337653.pdf?src-supplier=Digikey; ComponentLink8Description: https://datasheet.ciiva.com/337/cd00212838-337653.pdf?src-supplier=Digikey; ComponentLink9URL: https://datasheet.ciiva.com/11193/cd00212838-11193350.pdf?src-supplier=Avnet; ComponentLink9Description: https://datasheet.ciiva.com/11193/cd00212838-11193350.pdf?src-supplier=Avnet; ComponentLink10URL: https://datasheet.ciiva.com/41443/001184301-da-01-en-transil-sgl-un-esdalc6v1-1u2-st-0201-stm-41443159.pdf?src-supplier=Conrad; ComponentLink10Description: https://datasheet.ciiva.com/41443/001184301-da-01-en-transil-sgl-un-esdalc6v1-1u2-st-0201-stm-41443159.pdf?src-supplier=Conrad; Supplier 1: Mouser; Supplier Part Number 1: 511-ESDALC6V1-1U2; Supplier 2: Digikey; Supplier Part Number 2: 497-8752-6-ND; Manufacturer Part Number: ESDALC6V1-1U2
footprint FP-ST0201-MFG
pins: 1 IO1, 2 GND

## FDMS8025S
designator Q?
N-Channel PowerTrench® SyncFET™ 30V, 49A, 2.8mΩ; Manufacturer: ON Semiconductor / Fairchild; Rds On Max: 2.8mR; Input Capacitance: 3nF; Max Power Dissipation: 50W; Rise Time: 4.5ns; Gate to Source Voltage (Vgs): 20V; Turn-On Delay Time: 11ns; Turn-Off Delay Time: 29ns; Fall Time: 3.7ns; Threshold Voltage: 1.7V; Element Configuration: Single; Library: Hexabitz; Supplier: Digikey; Supplier Part Number: FDMS8025SDKR-ND; Manufacturer Part Number: FDMS8025S; RoHS: Yes; Stock: 5328; Pricing: 1=1.36, 10=1.04, 100=0.7293, 500=0.61502, 1000=0.56515 (USD); Mounting Technology: Surface Mount; Pins: 8; Weight: 0.0681g; Min Operating Temperature: -55°C; Max Operating Temperature: 150°C; Package Quantity: 3000; Packaging: Tape and Reel; Drain to Source Voltage (Vdss): 30V; Continuous Drain Current (ID): 49A; Drain to Source Breakdown Voltage: 30V; Power Dissipation: 50W; Drain to Source Resistance: 2.8mR; Polarity: N-CHANNEL; Series: PowerTrench®, SyncFET™; Drain-source On Resistance-Max: 2.8MR; Length: 5mm; Width: 6mm; Height: 1.05mm; Radiation Hardening: No; Reach SVHC Compliant: No; Lead Free: Lead Free; RoHS Compliant: Yes; ComponentLink1URL: https://datasheet.ciiva.com/933/fdms8025s-933856.pdf?src-supplier=Digikey; ComponentLink1Description: https://datasheet.ciiva.com/933/fdms8025s-933856.pdf?src-supplier=Digikey; ComponentLink2URL: https://datasheet.ciiva.com/11176/fdms8025s-11176125.pdf?src-supplier=Avnet; ComponentLink2Description: https://datasheet.ciiva.com/11176/fdms8025s-11176125.pdf?src-supplier=Avnet; ComponentLink3URL: https://datasheet.ciiva.com/16987/fdms8025s-16987161.pdf?src-supplier=Future+Electronics; ComponentLink3Description: https://datasheet.ciiva.com/16987/fdms8025s-16987161.pdf?src-supplier=Future+Electronics; Supplier 1: Digikey; Supplier Part Number 1: FDMS8025SDKR-ND
footprint PQFN-8_FDMS8025S
pins: 1 SOURCE1, 2 SOURCE2, 3 SOURCE3, 4 GATE, 5 DRAIN1, 6 DRAIN2, 7 DRAIN3, 8 DRAIN4

## MMBT3904,215
designator Q?
Single Bipolar Transistor, NPN, 40 V, 200 mA, 250 mW, TO-236AB (SOT-23), 3 Pins, Surface Mount; Manufacturer: Nexperia; Collector Base Voltage (VCBO): 60V; Collector Emitter Saturation Voltage: 200mV; Collector Emitter Voltage (VCEO): 40V; Emitter Base Voltage (VEBO): 6V; Max Collector Current: 200mA; Polarity: 5054Direction; Power Dissipation: 250mW; hFE Min: 100; Number of Elements: 1NUMBER; Library: Hexabitz; Supplier: Digikey; Supplier Part Number: 1727-4044-6-ND; RoHS: Yes; Category: BJTs; Stock: 549431; Pricing: 1=0.12, 10=0.074, 100=0.0456, 500=0.0329, 1000=0.02876 (USD); Pins: 3; Min Operating Temperature: -65°C; Max Operating Temperature: 150°C; Height: 1.1mm; RoHS Compliant: Yes; ComponentLink1URL: http://www.farnell.com/datasheets/2328888.pdf?src-supplier=Farnell; ComponentLink1Description: http://www.farnell.com/datasheets/2328888.pdf?src-supplier=Farnell; ComponentLink2URL: https://assets.nexperia.com/documents/data-sheet/MMBT3904.pdf?src-supplier=Digikey; ComponentLink2Description: https://assets.nexperia.com/documents/data-sheet/MMBT3904.pdf?src-supplier=Digikey; ComponentLink3URL: http://www.farnell.com/datasheets/2328888.pdf?src-supplier=Newark; ComponentLink3Description: http://www.farnell.com/datasheets/2328888.pdf?src-supplier=Newark; ComponentLink4URL: https://datasheet.octopart.com/MMBT3904%2C215-Nexperia-datasheet-8324612.pdf?src-supplier=Element14; ComponentLink4Description: https://datasheet.octopart.com/MMBT3904%2C215-Nexperia-datasheet-8324612.pdf?src-supplier=Element14; ComponentLink5URL: https://datasheet.octopart.com/MMBT3904%2C215-Nexperia-datasheet-157596251.pdf?src-supplier=TME; ComponentLink5Description: https://datasheet.octopart.com/MMBT3904%2C215-Nexperia-datasheet-157596251.pdf?src-supplier=TME; Supplier 1: Digikey; Supplier Part Number 1: 1727-4044-6-ND; Manufacturer Part Number: MMBT3904,215
footprint SOT95P230X110-3N
pins: 1 B, 2 E, 3 C

## MMBTA05LT1G
designator Q?
ON Semi MMBTA05LT1G NPN Bipolar Transistor; 0.5 A; 60 V; 3-Pin SOT-23; Manufacturer: ON Semiconductor; Library: Hexabitz; Supplier: Digikey; Supplier Part Number: MMBTA05LT1GOSDKR-ND; RoHS: Yes; Category: BJTs; Stock: 21706; Pricing: 1=0.19, 10=0.113, 100=0.07, 500=0.05098, 1000=0.0448 (USD); ComponentLink1URL: https://datasheet.ciiva.com/976/mmbta05lt1-d-976497.pdf?src-supplier=Digikey; ComponentLink1Description: https://datasheet.ciiva.com/976/mmbta05lt1-d-976497.pdf?src-supplier=Digikey; ComponentLink2URL: https://datasheet.ciiva.com/976/mmbta05lt1-d-976498.pdf?src-supplier=Digikey; ComponentLink2Description: https://datasheet.ciiva.com/976/mmbta05lt1-d-976498.pdf?src-supplier=Digikey; ComponentLink3URL: https://datasheet.ciiva.com/976/mmbta05lt1-d-976499.pdf?src-supplier=Digikey; ComponentLink3Description: https://datasheet.ciiva.com/976/mmbta05lt1-d-976499.pdf?src-supplier=Digikey; ComponentLink4URL: https://datasheet.ciiva.com/11204/mmbta05lt1-d-11204053.pdf?src-supplier=Avnet; ComponentLink4Description: https://datasheet.ciiva.com/11204/mmbta05lt1-d-11204053.pdf?src-supplier=Avnet; ComponentLink5URL: https://datasheet.ciiva.com/16507/mmbta05lt1-d-16507334.pdf?src-supplier=Future+Electronics; ComponentLink5Description: https://datasheet.ciiva.com/16507/mmbta05lt1-d-16507334.pdf?src-supplier=Future+Electronics; Supplier 1: Digikey; Supplier Part Number 1: MMBTA05LT1GOSDKR-ND; Manufacturer Part Number: MMBTA05LT1G
footprint SOT-23
pins: 1 BASE (in), 2 EMITTER, 3 COLLECTOR

## NTR4503NT1G
designator Q?
NTR4503NT1G N-channel MOSFET Transistor; 2.5 A; 30 V; 3-Pin SOT-23; Manufacturer: ON Semiconductor; Library: Hexabitz; Number of Channels: 1NUMBER; Voltage Rating (DC): 30V; Current Rating: 2.5A; Supplier: Digikey; Supplier Part Number: NTR4503NT1GOSDKR-ND; RoHS: Yes; Category: MOSFETs; Stock: 18552; Pricing: 1=0.49, 10=0.34, 100=0.1918, 500=0.16504, 1000=0.14759 (USD); Lead Free: 5697LeadFree; ComponentLink1URL: https://datasheet.ciiva.com/30480/0900766b81206070-30480060.pdf?src-supplier=Rs; ComponentLink1Description: https://datasheet.ciiva.com/30480/0900766b81206070-30480060.pdf?src-supplier=Rs; ComponentLink2URL: https://datasheet.ciiva.com/15137/getdatasheetpartid-52974-15137198.pdf?src-supplier=Verical; ComponentLink2Description: https://datasheet.ciiva.com/15137/getdatasheetpartid-52974-15137198.pdf?src-supplier=Verical; ComponentLink3URL: https://datasheet.ciiva.com/936/ntr4503n-d-936893.pdf?src-supplier=Digikey; ComponentLink3Description: https://datasheet.ciiva.com/936/ntr4503n-d-936893.pdf?src-supplier=Digikey; ComponentLink4URL: https://datasheet.ciiva.com/936/ntr4503n-d-936894.pdf?src-supplier=Digikey; ComponentLink4Description: https://datasheet.ciiva.com/936/ntr4503n-d-936894.pdf?src-supplier=Digikey; ComponentLink5URL: https://datasheet.ciiva.com/936/ntr4503n-d-936895.pdf?src-supplier=Digikey; ComponentLink5Description: https://datasheet.ciiva.com/936/ntr4503n-d-936895.pdf?src-supplier=Digikey; ComponentLink6URL: https://datasheet.ciiva.com/22641/86059-22641706.pdf?src-supplier=Element14; ComponentLink6Description: https://datasheet.ciiva.com/22641/86059-22641706.pdf?src-supplier=Element14; ComponentLink7URL: https://datasheet.ciiva.com/16202/ntr4503n-d-16202405.pdf?src-supplier=Future+Electronics; ComponentLink7Description: https://datasheet.ciiva.com/16202/ntr4503n-d-16202405.pdf?src-supplier=Future+Electronics; Supplier 1: Digikey; Supplier Part Number 1: NTR4503NT1GOSDKR-ND; Manufacturer Part Number: NTR4503NT1G
footprint SOT23
pins: 1 GATE, 2 SOURCE, 3 DRAIN

## NTS4001NT1G
designator Q?
Trans Mosfet N-ch 30V 0.27A 3-PIN SC-70 T/r; Manufacturer: ON Semiconductor; Library: Hexabitz; Supplier: Digikey; RoHS: Yes; Category: MOSFETs; Stock: 60659; Pricing: 1=0.32, 10=0.199, 100=0.0969, 500=0.0925, 1000=0.0802 (USD); ComponentLink1URL: https://datasheet.ciiva.com/13060/nts4001n-d-98833-13060653.pdf?src-supplier=Mouser; ComponentLink1Description: https://datasheet.ciiva.com/13060/nts4001n-d-98833-13060653.pdf?src-supplier=Mouser; ComponentLink2URL: https://datasheet.ciiva.com/30479/0900766b81206072-30479659.pdf?src-supplier=Rs; ComponentLink2Description: https://datasheet.ciiva.com/30479/0900766b81206072-30479659.pdf?src-supplier=Rs; ComponentLink3URL: https://datasheet.ciiva.com/30479/0900766b81206072-30479665.pdf?src-supplier=Rs; ComponentLink3Description: https://datasheet.ciiva.com/30479/0900766b81206072-30479665.pdf?src-supplier=Rs; ComponentLink4URL: https://datasheet.ciiva.com/23868/86002-23868099.pdf?src-supplier=Newark; ComponentLink4Description: https://datasheet.ciiva.com/23868/86002-23868099.pdf?src-supplier=Newark; ComponentLink5URL: https://datasheet.ciiva.com/11168/nts4001n-d-11168198.pdf?src-supplier=Avnet; ComponentLink5Description: https://datasheet.ciiva.com/11168/nts4001n-d-11168198.pdf?src-supplier=Avnet; ComponentLink6URL: https://datasheet.ciiva.com/8059/86002-8059418.pdf?src-supplier=Element14; ComponentLink6Description: https://datasheet.ciiva.com/8059/86002-8059418.pdf?src-supplier=Element14; ComponentLink7URL: https://datasheet.ciiva.com/8059/86002-8059419.pdf?src-supplier=Element14; ComponentLink7Description: https://datasheet.ciiva.com/8059/86002-8059419.pdf?src-supplier=Element14; ComponentLink8URL: https://datasheet.ciiva.com/936/nts4001n-d-936827.pdf?src-supplier=Digikey; ComponentLink8Description: https://datasheet.ciiva.com/936/nts4001n-d-936827.pdf?src-supplier=Digikey; Supplier Part Number: NTS4001NT1GOSDKR-ND; Supplier 1: Digikey; Supplier Part Number 1: NTS4001NT1GOSDKR-ND; Manufacturer Part Number: NTS4001NT1G
footprint SC70_3
pins: 1 GATE, 2 SOURCE, 3 DRAIN

## PBSS4260PANP,115
designator Q?
PBSS4260PANP - 60 V, 2 A NPN/PNP low VCEsat (BISS) transistor; Manufacturer: Nexperia; Library: Hexabitz; Polarity: 5054,5055Direction; Collector Emitter Voltage (VCEO): 60V; Element Configuration: 5461ElementConfiguration; Emitter Base Voltage (VEBO): 7V; Gain Bandwidth Product: 100MHz; Max Collector Current: 3A; Max Power Dissipation: 1.45W; Number of Elements: 2NUMBER; Power Dissipation: 2W; Collector Emitter Saturation Voltage: -100mV; Supplier: Digikey; Supplier Part Number: 1727-1076-6-ND; RoHS: Yes; Category: BJTs; Stock: 2909; Pricing: 1=0.86, 10=0.538, 100=0.3484, 500=0.26694, 1000=0.24068 (USD); Mounting Technology: 8Mount; Case/Package: 111Case; Pins: 6NUMBER; Min Operating Temperature: -55°C; Max Operating Temperature: 150°C; Collector Base Voltage (VCBO): 60V; Radiation Hardening: 5898YesNo; ComponentLink1URL: https://datasheet.octopart.com/PBSS4260PANP%2C115-Nexperia-datasheet-14044236.pdf?src-supplier=Newark; ComponentLink1Description: https://datasheet.octopart.com/PBSS4260PANP%2C115-Nexperia-datasheet-14044236.pdf?src-supplier=Newark; ComponentLink2URL: https://datasheet.octopart.com/PBSS4260PANP%2C115-Nexperia-datasheet-87843922.pdf?src-supplier=Future+Electronics; ComponentLink2Description: https://datasheet.octopart.com/PBSS4260PANP%2C115-Nexperia-datasheet-87843922.pdf?src-supplier=Future+Electronics; Supplier 1: Digikey; Supplier Part Number 1: 1727-1076-6-ND; Manufacturer Part Number: PBSS4260PANP,115
footprint DFN2020_0P65_6P
pins: 1 E1, 2 B1, 3 C2, 4 E2, 5 B2, 6 C1, 7 C1_1, 8 C2_1
text: Q1; Q2

## PLVA653A-QR
designator D?
Zener Diode, 5.3V, 0.25W, Sot-23 Rohs Compliant: Yes |Nexperia PLVA653A-QR; Library: Hexabitz; Supplier: Digikey; Supplier Part Number: 1727-PLVA653A-QRDKR-ND; Manufacturer: Nexperia; RoHS: No; Category: Zener Diodes; Stock: 3000; Pricing: 1=0.41, 10=0.303, 100=0.1715, 500=0.11564, 1000=0.089 (USD); Supplier 1: Digikey; Supplier Part Number 1: 1727-PLVA653A-QRDKR-ND; Supplier 2: Mouser; Supplier Part Number 2: 771-PLVA653A-QR; Manufacturer Part Number: PLVA653A-QR
footprint SOT95P230X110-3N - duplicate
pins: 1 ANODE, 3 CATHODE

## PMEG3020BEP
designator D?  Manufacturer Part Number: PMEG3020BEP,115  (hidden comment: PMEG3020BEP)
On a Reel of 3000, Nexperia 30V 2A, Schottky Diode, 2-Pin SOD-128 PMEG3020BEP, 115; Library: Hexabitz; Max Power Dissipation: 625mW; Element Configuration: 5460ElementConfiguration; Forward Voltage: 450mV; Max Reverse Leakage Current: 100uA; Max Surge Current: 50A; Supplier: Digikey; Supplier Part Number: 1727-5202-6-ND; Manufacturer: Nexperia; RoHS: Yes; Category: Schottky Diodes; Stock: 104561; Pricing: 1=0.38, 10=0.236, 100=0.1858, 500=0.1572, 1000=0.12225 (USD); Mounting Technology: 8Mount; Case/Package: 97Case; Pins: 2NUMBER; Min Operating Temperature: -55°C; Max Operating Temperature: 150°C; Average Rectified Current: 2A; Max Repetitive Reverse Voltage (Vrrm): 30V; Max Reverse Voltage (DC): 30V; Peak Non-Repetitive Surge Current: 50A; Max Reverse Current: 100uA; Radiation Hardening: 5898YesNo; RoHS Compliant: Yes; Lead Free: 5697LeadFree; ComponentLink1URL: https://datasheet.octopart.com/PMEG3020BEP%2C115-Nexperia-datasheet-10741761.pdf?src-supplier=Newark; ComponentLink1Description: https://datasheet.octopart.com/PMEG3020BEP%2C115-Nexperia-datasheet-10741761.pdf?src-supplier=Newark; Supplier 1: Digikey; Supplier Part Number 1: 1727-5202-6-ND; Supplier 2: Mouser; Supplier Part Number 2: 771-PMEG3020BEP-115
footprint SODFL4725X110N
pins: 1 K, 2 A

## RB160M-40TR
designator D?
Rectifier Diode, Schottky, 1 Phase, 1 Element, 1A, 40V V(RRM), Silicon; Manufacturer: Rohm; Library: Hexabitz; Supplier: Mouser; Supplier Part Number: 755-RB160M-40TR; RoHS: Yes; Category: Rectifier Diodes; Stock: 12973; Pricing: 1=0.7, 10=0.376, 50=0.376, 100=0.269, 1000=0.218, 10000=0.186 (USD); ComponentLink1URL: https://datasheet.ciiva.com/13083/rb160m-40-209806-13083321.pdf?src-supplier=Mouser; ComponentLink1Description: https://datasheet.ciiva.com/13083/rb160m-40-209806-13083321.pdf?src-supplier=Mouser; ComponentLink2URL: https://datasheet.ciiva.com/22696/1645225-22696103.pdf?src-supplier=Element14; ComponentLink2Description: https://datasheet.ciiva.com/22696/1645225-22696103.pdf?src-supplier=Element14; ComponentLink3URL: https://datasheet.ciiva.com/914/rb160m-40-914048.pdf?src-supplier=Digikey; ComponentLink3Description: https://datasheet.ciiva.com/914/rb160m-40-914048.pdf?src-supplier=Digikey; ComponentLink4URL: https://datasheet.ciiva.com/3021/rb160m-40-3021997.pdf?src-supplier=Avnet; ComponentLink4Description: https://datasheet.ciiva.com/3021/rb160m-40-3021997.pdf?src-supplier=Avnet; ComponentLink5URL: https://datasheet.ciiva.com/914/rb160m-40-914049.pdf?src-supplier=Digikey; ComponentLink5Description: https://datasheet.ciiva.com/914/rb160m-40-914049.pdf?src-supplier=Digikey; ComponentLink6URL: https://datasheet.ciiva.com/914/rb160m-40-914050.pdf?src-supplier=Digikey; ComponentLink6Description: https://datasheet.ciiva.com/914/rb160m-40-914050.pdf?src-supplier=Digikey; Supplier 1: Mouser; Supplier Part Number 1: 755-RB160M-40TR; Manufacturer Part Number: RB160M-40TR
footprint SOD123
pins: A, C